# Altium footprint library CON_USB_TypeA_Jack_RT_TH.PcbLib: 1 footprints
Each footprint in its own frame and in the unit in brackets; x right, y up, seen from the top. Pads: shape width x height; smd on the part's side, far side on the other; paste and mask are expansions set on the pad; w line width, h text height; cw(c..) or ccw(c..) is an arc to the next point about the centre after c.
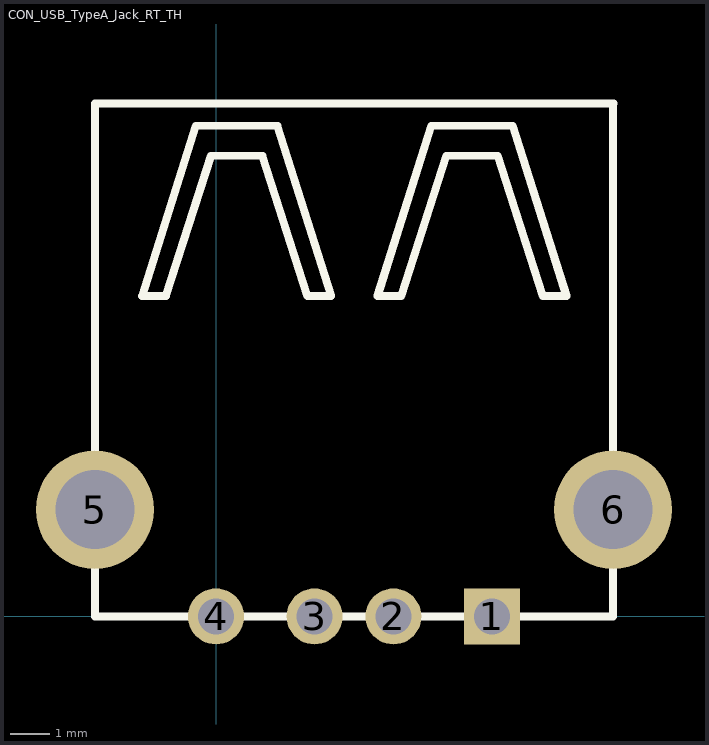
[diagram p0: the footprint, top view; thin cyan lines are the x and y axes]

## CON_USB_TypeA_Jack_RT_TH [mm]
pads (6):
  rect 1.42x1.42 hole 0.92: 1(7,0)
  round 1.42 hole 0.92: 2(4.5,0) 3(2.5,0) 4(0,0)
  round 3 hole 2: 5(-3.07,2.71) 6(10.07,2.71)
Top Overlay:
  lines w0.2: 1.524,12.446 -0.508,12.446 -1.873,8.128 -1.27,8.128 -0.127,11.684 1.175,11.684 2.318,8.128 2.921,8.128 1.556,12.446 ; 7.493,12.446 5.461,12.446 4.096,8.128 4.699,8.128 5.842,11.684 7.144,11.684 8.287,8.128 8.89,8.128 7.525,12.446 ; 10.089,13.01 10.07,13.01 ; 10.07,13.01 -3.07,13.01 -3.07,0 10.07,0 10.07,13.01